# EAGLE library part LTC-5653 (library greg)
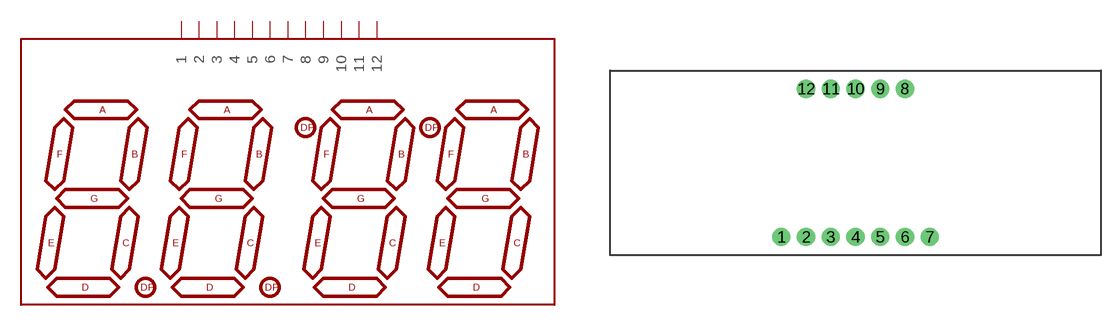
[diagram p17: symbol with the pads of LTC-5653; footprint LTC-5653]

Designator prefix -

## LTC-5653LTC-5653  [LTC-5653]
1  1
2  2
3  3
4  4
5  5
6  6
7  7
8  8
9  9
10  10
11  11
12  12

## Footprint LTC-5653 (pad centres in mm)
drill 0.9 pad 1.88: 1 -7.62,-7.62; 2 -5.08,-7.62; 3 -2.54,-7.62; 4 0,-7.62; 5 2.54,-7.62; 6 5.08,-7.62; 7 7.62,-7.62; 8 5.08,7.62; 9 2.54,7.62; 10 0,7.62; 11 -2.54,7.62; 12 -5.08,7.62